# EAGLE library part 7W04* (library 7SH)
Tripple Inverter
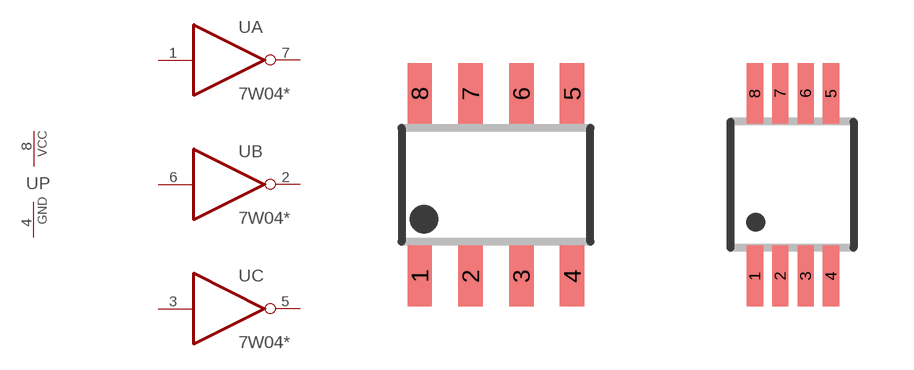
[diagram p1: symbol with the pads of FM8; footprints FM8, TSSOP8-0D65]

Designator prefix U; gates A=GATE_INV B=GATE_INV C=GATE_INV P=PWRGNDV

## 7W04F  [FM8]
1  A:I  in
2  B:OUT  out
3  C:I  in
4  P:GND  pwr
5  C:OUT  out
6  B:I  in
7  A:OUT  out
8  P:VCC  pwr

## 7W04FUT  [TSSOP8-0D65]
Pads as for FM8

## Footprint FM8 (pad centres in mm)
smd 0.61 x 1.524: 1 -1.905,-2.286; 2 -0.635,-2.286; 3 0.635,-2.286; 4 1.905,-2.286; 5 1.905,2.286; 6 0.635,2.286; 7 -0.635,2.286; 8 -1.905,2.286

## Footprint TSSOP8-0D65 (pad centres in mm)
smd 0.406 x 1.524: 1 -0.953,-2.286; 2 -0.318,-2.286; 3 0.318,-2.286; 4 0.953,-2.286; 5 0.953,2.286; 6 0.318,2.286; 7 -0.318,2.286; 8 -0.953,2.286